# Altium schematic symbol library doorzoom_new.SchLib: 7 symbols
Pins are listed as number, name and electrical type; pins without a type are passive.

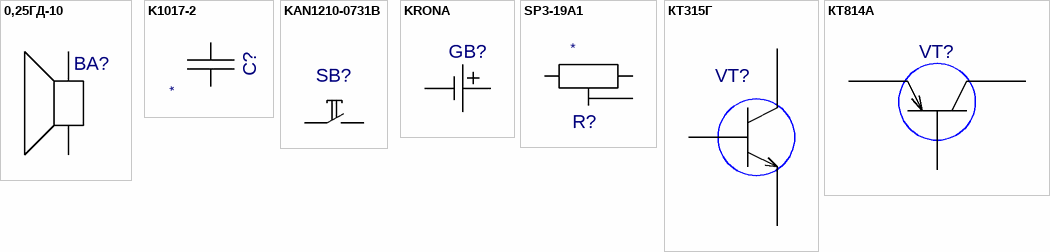
[diagram p0: symbols 0,25ГД-10 to КТ814А]

## 0,25ГД-10
designator BA?  (value not drawn)
Value: *
footprint 0,25ГД-10
pins: 1, 2, 3 hidden, 4 hidden, 5 hidden, 6 hidden

## K1017-2
designator C?  (value not drawn)
Value: *
footprint K1017-2
pins: 1 I/OA, 2 I/OB

## KAN1210-0731B
designator SB?  (value not drawn)
Value: *
footprint KAN1210-0731B
pins: 1, 2 hidden, 3 2, 4 hidden

## KRONA
designator GB?  (value not drawn)
Value: *
footprint KRONA
pins: 1 hidden, 2 hidden, minus 1, plus 2

## SP3-19A1
designator R?  (value not drawn)
Value: *
footprint SP3-19A1
pins: 1 I/O1, 2 I/O2, 3 I/O3

## КТ315Г
designator VT?  (value not drawn)
Value: *
footprint KT13
pins: 1 E, 2 B, 3 K

## КТ814А
designator VT?  (value not drawn)
Value: *
footprint KT-27
pins: 1 E, 2 K, 3 B